# Altium integrated library ZF5S-12-02-T-WT.IntLib: 1 symbol
Pins are listed as number, name and electrical type; pins without a type are passive.

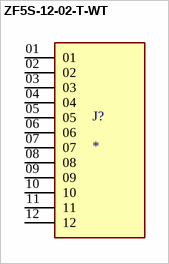
[diagram p0: symbol ZF5S-12-02-T-WT]

## ZF5S-12-02-T-WT
designator J?
MP: ZF5S-12-02-T-WT; Package: None; Price: None; Value: *; Availability: Unavailable
footprint SAMTEC_ZF5S-12-02-T-WT
pins: 01, 02, 03, 04, 05, 06, 07, 08, 09, 10, 11, 12